# EAGLE library part REZISTORX8 (library TABOR K1)
9-pinova rezistorova siet SIL: diera s pokovenim = 0,6 mm, vrtanie = 0,8mm
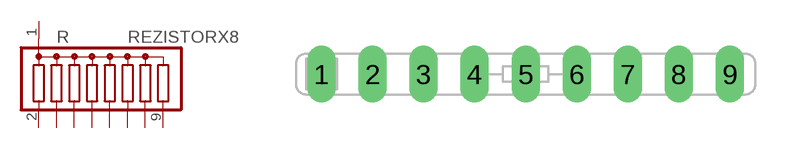
[diagram p53: symbol with the pads of R-SIL9; footprint R-SIL9]

Designator prefix R

## REZISTORX8SIL9  [R-SIL9]
1  1  pas
2  2  pas
3  3  pas
4  4  pas
5  5  pas
6  6  pas
7  7  pas
8  8  pas
9  9  pas

## Footprint R-SIL9 (pad centres in mm)
9-pinova rezistorova siet SIL: diera s pokovenim = 0,6 mm, vrtanie = 0,8mm
drill 0.813 pad 1.422 long: 1 -10.16,0; 2 -7.62,0; 3 -5.08,0; 4 -2.54,0; 5 0,0; 6 2.54,0; 7 5.08,0; 8 7.62,0; 9 10.16,0